# Altium footprint library PJ-202B.PcbLib: 1 footprints
Each footprint in its own frame and in the unit in brackets; x right, y up, seen from the top. Pads: shape width x height; smd on the part's side, far side on the other; paste and mask are expansions set on the pad; w line width, h text height; cw(c..) or ccw(c..) is an arc to the next point about the centre after c.
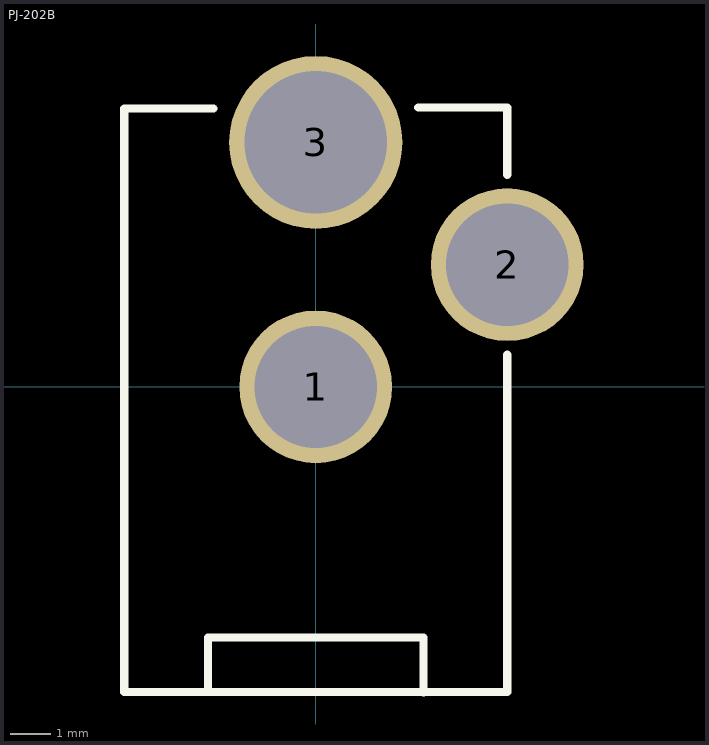
[diagram p0: the footprint, top view; thin cyan lines are the x and y axes]

## PJ-202B [mm] "5/2.5mm Barrel Power Connector"
pads (3):
  round 3.75 hole 3: 1(0,0) 2(4.7,3)
  round 4.25 hole 3.5: 3(0,6)
Top Overlay:
  lines w0.2: -2.642,-7.49 -2.642,-6.147 2.642,-6.147 2.642,-7.493 ; -2.515,6.833 -4.7,6.833 -4.7,-7.49 4.699,-7.49 ; 2.515,6.858 4.699,6.858 ; 4.7,-7.49 4.7,0.787 ; 4.7,5.207 4.7,6.858